# Altium schematic symbol library IRFI4019HG.Schlib: 1 symbol
Pins are listed as number, name and electrical type; pins without a type are passive.

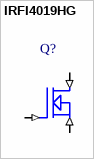
[diagram p0: symbol IRFI4019HG]

## IRFI4019HG
designator Q?
pins: 1 GATE (in), 2 SOURCE (in), 3 DRAIN (in)
1 alternate drawing of the same symbol